# Altium schematic symbol library SCH - MCU - ATTINY - MICROCHIP ATTINY45V-20SH SOIC8.SchLib: 1 symbol
Pins are listed as number, name and electrical type; pins without a type are passive.

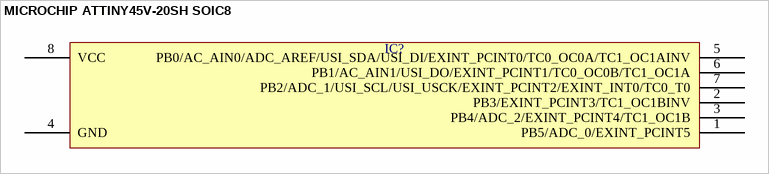
[diagram p0: symbol MICROCHIP ATTINY45V-20SH SOIC8]

## MICROCHIP ATTINY45V-20SH SOIC8
designator IC?  (value not drawn)
pins: 1 PB5/ADC_0/EXINT_PCINT5, 2 PB3/EXINT_PCINT3/TC1_OC1BINV, 3 PB4/ADC_2/EXINT_PCINT4/TC1_OC1B, 4 GND, 5 PB0/AC_AIN0/ADC_AREF/USI_SDA/USI_DI/EXINT_PCINT0/TC0_OC0A/TC1_OC1AINV, 6 PB1/AC_AIN1/USI_DO/EXINT_PCINT1/TC0_OC0B/TC1_OC1A, 7 PB2/ADC_1/USI_SCL/USI_USCK/EXINT_PCINT2/EXINT_INT0/TC0_T0, 8 VCC